# Altium footprint library Conectores.PcbLib: 8 footprints
Each footprint in its own frame and in the unit in brackets; x right, y up, seen from the top. Pads: shape width x height; smd on the part's side, far side on the other; paste and mask are expansions set on the pad; w line width, h text height; cw(c..) or ccw(c..) is an arc to the next point about the centre after c.
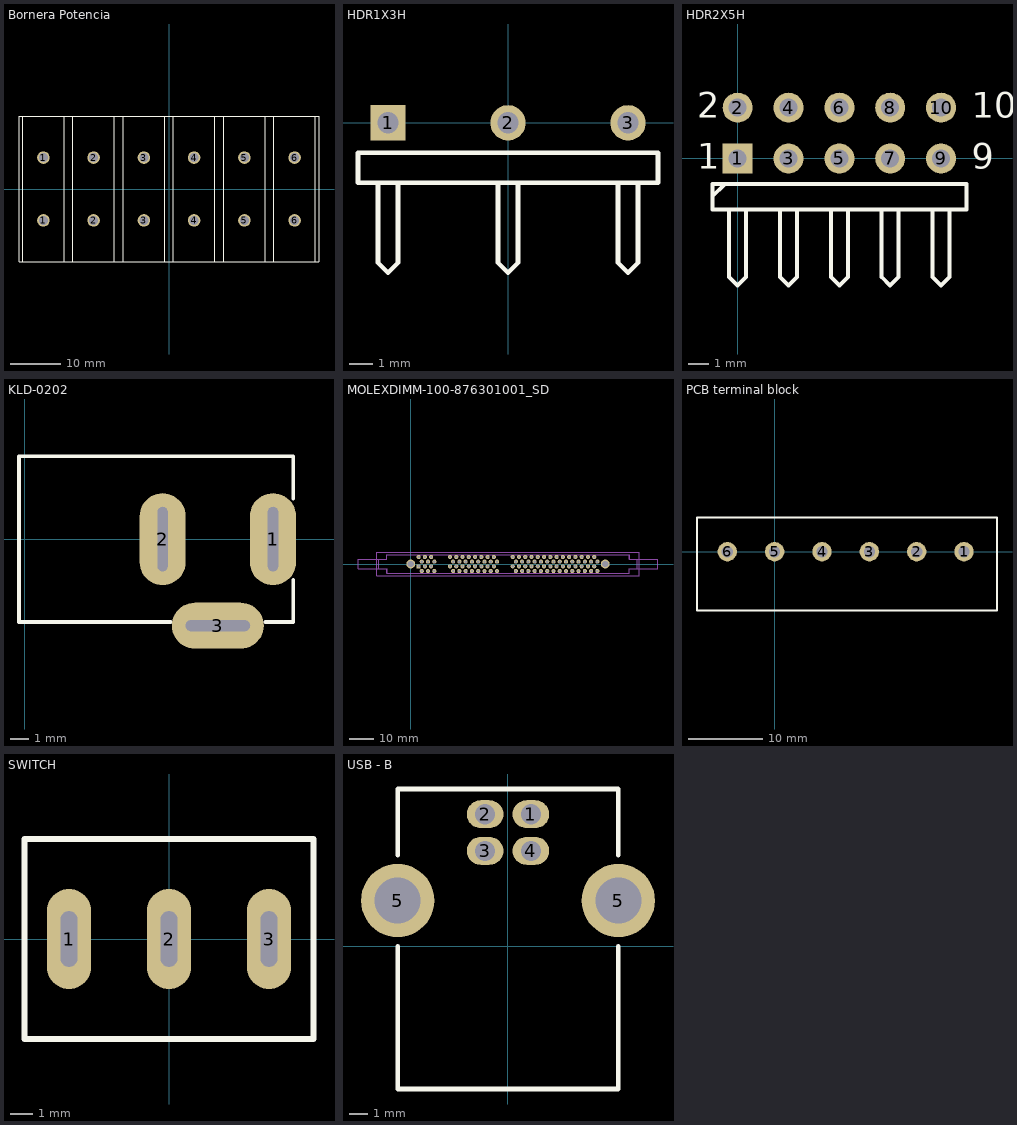
[diagram p0: the footprints below, top view; thin cyan lines are the x and y axes]

## Bornera Potencia [mm]
pads (12):
  round 2.5 hole 1.8: 1(-25,-6.25) 1(-25,6.25) 2(-15,-6.25) 2(-15,6.25) 3(-5,-6.25) 3(-5,6.25) 4(5,-6.25) 4(5,6.25) 5(15,-6.25) 5(15,6.25) 6(25,-6.25) 6(25,6.25)
Top Overlay:
  lines w0.203: -29.15,-14.5 -29.15,14.5 ; -20.85,-14.5 -20.85,14.5 ; -19.15,-14.5 -19.15,14.5 ; -10.85,-14.5 -10.85,14.5 ; -9.15,-14.5 -9.15,14.5 ; -0.85,-14.5 -0.85,14.5 ; 0.85,-14.5 0.85,14.5 ; 0.85,-14.5 9.15,-14.5 ; 0.85,-14.5 -10.15,-14.5 -20.15,-14.5 -29.85,-14.5 -29.85,14.5 -20.15,14.5 -10.15,14.5 0.85,14.5 ; 0.85,14.5 9.15,14.5 ; 9.15,-14.5 9.15,14.5 ; 9.15,-14.5 10.85,-14.5 ; 9.15,14.5 10.85,14.5 ; 10.85,-14.5 10.85,14.5 ; 10.85,-14.5 19.15,-14.5 ; 10.85,14.5 19.15,14.5 ; 19.15,-14.5 20.85,-14.5 ; 19.15,-14.5 19.15,14.5 ; 19.15,14.5 20.85,14.5 ; 20.85,-14.5 29.15,-14.5 ; 20.85,-14.5 20.85,14.5 ; 20.85,14.5 29.15,14.5 ; 29.15,-14.5 29.85,-14.5 29.85,14.5 29.15,14.5 ; 29.15,-14.5 29.15,14.5

## HDR1X3H [mm] "Conector Horizontal Selección Fase - Revisado por PA 24/05/15"
pads (3):
  rect 1.5x1.5 hole 0.9: 1(-5.08,0)
  round 1.5 hole 0.9: 2(0,0) 3(5.08,0)
Top Overlay:
  lines w0.2: -5.503,-2.54 -5.503,-5.927 -5.08,-6.35 -4.657,-5.927 -4.657,-2.54 ; -0.423,-2.54 -0.423,-5.927 0,-6.35 0.423,-5.927 0.423,-2.54 ; 4.657,-2.54 4.657,-5.927 5.08,-6.35 5.503,-5.927 5.503,-2.54 ; -6.35,-2.54 6.35,-2.54 6.35,-1.27 -6.35,-1.27 -6.35,-2.54

## HDR2X5H [mm] "Connector; Header; 5x2 Position; Right Angle"
pads (10):
  rect 1.5x1.5 hole 0.9: 1(0,0)
  round 1.5 hole 0.9: 2(0,2.54) 3(2.54,0) 4(2.54,2.54) 5(5.08,0) 6(5.08,2.54) 7(7.62,0) 8(7.62,2.54) 9(10.16,0) 10(10.16,2.54)
Top Overlay:
  lines w0.2: -1.27,-1.905 -0.635,-1.27 ; -0.423,-2.54 -0.423,-5.927 0,-6.35 0.423,-5.927 0.423,-2.54 ; 2.117,-2.54 2.117,-5.927 2.54,-6.35 2.963,-5.927 2.963,-2.54 ; 4.657,-2.54 4.657,-5.927 5.08,-6.35 5.503,-5.927 5.503,-2.54 ; 7.197,-2.54 7.197,-5.927 7.62,-6.35 8.043,-5.927 8.043,-2.54 ; 9.737,-2.54 9.737,-5.927 10.16,-6.35 10.583,-5.927 10.583,-2.54 ; -1.27,-2.54 -1.27,-1.27 11.43,-1.27 11.43,-2.54 -1.27,-2.54
  text "10" at 11.684,2.032 h1.27
  text "9" at 11.684,-0.508 h1.27
  text "1" at -2.032,-0.508 h1.27
  text "2" at -2.032,2.032 h1.27

## KLD-0202 [mm] "DC Power Jack 2.5mm - Revisado por PA 25/04/15"
pads (3):
  oval 2.5x5 hole 0.55 slot 3.5 at 90 deg: 1(13.5,0) 2(7.5,0)
  oval 5x2.5 hole 0.6 slot 3.5 at 0 deg: 3(10.5,-4.7)
Top Overlay:
  lines w0.2: 7.95,-4.5 -0.305,-4.5 -0.305,4.5 14.6,4.5 14.6,2.2 ; 13.081,-4.5 14.6,-4.5 14.6,-2.2

## MOLEXDIMM-100-876301001_SD [mil] "Revisada por ES 28/08/15"
pads (102):
  rect 66x66 hole 37.8 mask+3: 1(125,-37.6)
  round 66 hole 37.8 mask+3: 2(175,-112.6) 3(225,-37.6) 4(275,-112.6) 5(325,-37.6) 6(375,-112.6) 7(625,-37.6) 8(675,-112.6) 9(725,-37.6) 10(775,-112.6) 11(825,-37.6) 12(875,-112.6) 13(925,-37.6) 14(975,-112.6) 15(1025,-37.6) 16(1075,-112.6) 17(1125,-37.6) 18(1175,-112.6) 19(1225,-37.6) 20(1275,-112.6) 21(1325,-37.6) 22(1375,-112.6) 23(1625,-37.6) 24(1675,-112.6) 25(1725,-37.6) 26(1775,-112.6) 27(1825,-37.6) 28(1875,-112.6) 29(1925,-37.6) 30(1975,-112.6) 31(2025,-37.6) 32(2075,-112.6) 33(2125,-37.6) 34(2175,-112.6) 35(2225,-37.6) 36(2275,-112.6) 37(2325,-37.6) 38(2375,-112.6) 39(2425,-37.6) 40(2475,-112.6) 41(2525,-37.6) 42(2575,-112.6) 43(2625,-37.6) 44(2675,-112.6) 45(2725,-37.6) 46(2775,-112.6) 47(2825,-37.6) 48(2875,-112.6) 49(2925,-37.6) 50(2975,-112.6) 51(125,112.6) 52(175,37.6) 53(225,112.6) 54(275,37.6) 55(325,112.6) 56(375,37.6) 57(625,112.6) 58(675,37.6) 59(725,112.6) 60(775,37.6) 61(825,112.6) 62(875,37.6) 63(925,112.6) 64(975,37.6) 65(1025,112.6) 66(1075,37.6) 67(1125,112.6) 68(1175,37.6) 69(1225,112.6) 70(1275,37.6) 71(1325,112.6) 72(1375,37.6) 73(1625,112.6) 74(1675,37.6) 75(1725,112.6) 76(1775,37.6) 77(1825,112.6) 78(1875,37.6) 79(1925,112.6) 80(1975,37.6) 81(2025,112.6) 82(2075,37.6) 83(2125,112.6) 84(2175,37.6) 85(2225,112.6) 86(2275,37.6) 87(2325,112.6) 88(2375,37.6) 89(2425,112.6) 90(2475,37.6) 91(2525,112.6) 92(2575,37.6) 93(2625,112.6) 94(2675,37.6) 95(2725,112.6) 96(2775,37.6) 97(2825,112.6) 98(2875,37.6) 99(2925,112.6) 100(2975,37.6)
  round 140.16 hole 100.79 mask+3: AA(0,0) AB(3100,0)
Mechanical 1:
  lines w1: -512.01,-78.54 -512.01,78.54 ; -512.01,-78.54 -382.28,-78.54 -382.28,-147 3482.28,-147 3482.28,-78.54 3612.01,-78.54 ; -512.01,-78.54 -841.73,-78.54 -841.73,78.54 -512.01,78.54 ; -512.01,-78.54 -512.01,78.54 ; -512.01,78.54 -382.28,78.54 -382.28,147 3482.28,147 3482.28,78.54 3612.01,78.54 ; 3612.01,-78.54 3612.01,78.54 ; 3612.01,-78.54 3941.73,-78.54 3941.73,78.54 3612.01,78.54 ; 3612.01,-78.54 3612.01,78.54
  lines w6: -512.01,-78.54 -512.01,78.54 -382.28,78.54 -382.28,147 3482.28,147 3482.28,78.54 3612.01,78.54 3612.01,-78.54 3482.28,-78.54 3482.28,-147 -382.28,-147 -382.28,-78.54 -512.01,-78.54
Mechanical 15:
  lines w3.94: -546.46,-184.45 3646.46,-184.45 3646.46,184.45 -546.46,184.45 -546.46,-184.45
3D body "87630-1001.stp": height 969.68, standoff -155.51, extent -506.89,-145.08 3607.28,145.08

## PCB terminal block [mm] "MKDS 5/ 3-6,35 - 1714968 - Revisado por ES 28/08/15"
height 21.5
pads (6):
  round 2.6 hole 1.5: 1(25.4,0) 2(19.05,0) 3(12.7,0) 4(6.35,0) 5(0,0) 6(-6.35,0)
Top Overlay:
  lines w0.254: -10.414,-7.9 29.82,-7.9 29.82,4.6 25.4,4.6 19.05,4.6 12.7,4.6 6.35,4.6 0,4.6 -10.414,4.6 -10.414,-7.9

## SWITCH [mm]
pads (3):
  oval 2x4.5 hole 0.762 slot 2.5 at 90 deg: 1(-4.5,0) 2(0,0) 3(4.5,0)
Top Overlay:
  lines w0.254: -6.5,-4.5 6.5,-4.5 6.5,4.5 -6.5,4.5 -6.5,-4.5

## USB - B [mm] "Conector USB tipo B - Revisado por PA 23/05/15"
pads (6):
  oval 2x1.524 hole 1.1: 1(1.27,7.21) 2(-1.23,7.21) 3(-1.23,5.21) 4(1.27,5.21)
  round 4 hole 2.5: 5(-6,2.5) 5(6.04,2.5)
Top Overlay:
  lines w0.254: -6,0 -6,-7.78 6.04,-7.78 6.04,0 ; -6,4.978 -6,8.585 6.02,8.585 6.04,8.565 6.04,4.978